# Altium footprint library WE 7427932 ferrite.PcbLib: 1 footprints
Each footprint in its own frame and in the unit in brackets; x right, y up, seen from the top. Pads: shape width x height; smd on the part's side, far side on the other; paste and mask are expansions set on the pad; w line width, h text height; cw(c..) or ccw(c..) is an arc to the next point about the centre after c.
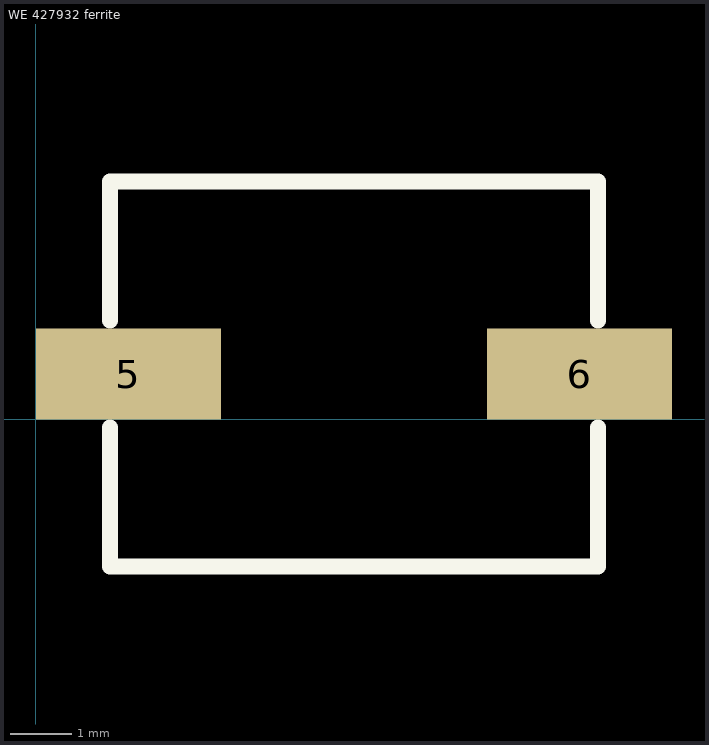
[diagram p0: the footprint, top view; thin cyan lines are the x and y axes]

## WE 427932 ferrite [mm]
pads (2):
  rect 3x1.47 smd mask+0: 5(1.5,0.735) 6(8.8,0.735)
Top Overlay:
  lines w0.254: 1.2,-0.13 1.2,-2.38 9.1,-2.38 9.1,-0.13 ; 1.2,1.6 1.2,3.85 9.1,3.85 9.1,1.6